# Altium schematic symbol library RES,10m,1%,2W,2512.Schlib: 1 symbol
Pins are listed as number, name and electrical type; pins without a type are passive.

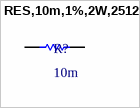
[diagram p0: symbol RES,10m,1%,2W,2512]

## RES,10m,1%,2W,2512
designator R?, comment 10m
10 mOhms ±1% 2W Chip Resistor 2512 (6432 Metric) Automotive AEC-Q200, Current Sense, Moisture Resistant Metal Element
pins: 1, 2